# EAGLE library part INEMO_M1 (library F_ck)
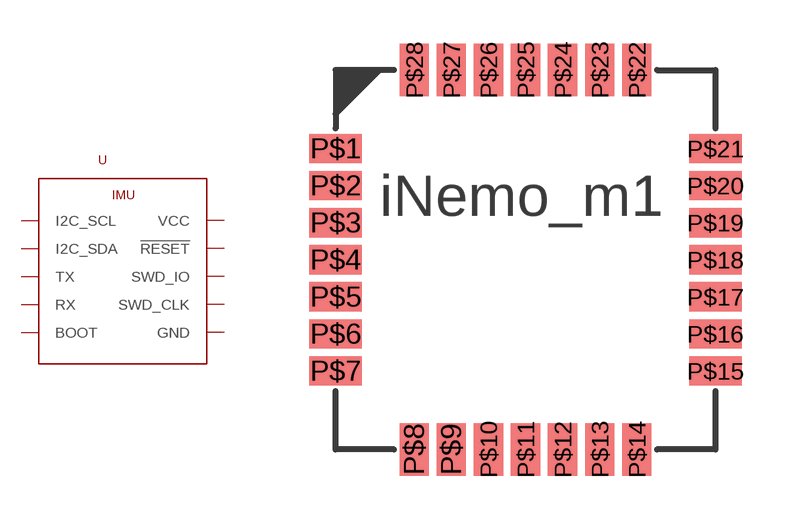
[diagram p1: symbol with the pads of INEMO; footprint INEMO]

Designator prefix U

## INEMO_M1  [INEMO]
P$1  VCC
P$2  BOOT
P$3  !RESET
P$6  GND
P$10  I2C_SCL
P$11  I2C_SDA
P$14  GND
P$15  GND
P$16  RX
P$18  TX
P$19  SWD_IO
P$20  SWD_CLK
P$27  VCC
P$28  GND

## Footprint INEMO (pad centres in mm)
smd 1.8 x 1: P$1 -6.5,3.81; P$2 -6.5,2.54; P$3 -6.5,1.27; P$4 -6.5,0; P$5 -6.5,-1.27; P$6 -6.5,-2.54; P$7 -6.5,-3.81; P$15 6.5,-3.81; P$16 6.5,-2.54; P$17 6.5,-1.27; P$18 6.5,0; P$19 6.5,1.27; P$20 6.5,2.54; P$21 6.5,3.81
smd 1 x 1.8: P$8 -3.81,-6.5; P$9 -2.54,-6.5; P$10 -1.27,-6.5; P$11 0,-6.5; P$12 1.27,-6.5; P$13 2.54,-6.5; P$14 3.81,-6.5; P$22 3.81,6.5; P$23 2.54,6.5; P$24 1.27,6.5; P$25 0,6.5; P$26 -1.27,6.5; P$27 -2.54,6.5; P$28 -3.81,6.5